# Altium schematic symbol library ISRC.Schlib: 1 symbol
Pins are listed as number, name and electrical type; pins without a type are passive.

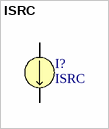
[diagram p0: symbol ISRC]

## ISRC
designator I?
Current Source
pins: 1, 2